# EAGLE library part GRPB032VWQP (library con-sullins-grpb)
HEADER
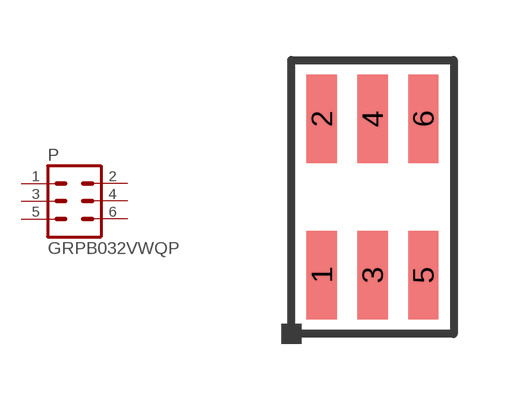
[diagram p0: symbol with the pads of GRPB032VWQP; footprint GRPB032VWQP]

Designator prefix P

## GRPB032VWQP  [GRPB032VWQP]
1  1  pas
2  2  pas
3  3  pas
4  4  pas
5  5  pas
6  6  pas

## Footprint GRPB032VWQP (pad centres in mm)
HEADER
smd 0.762 x 2.21: 1 -1.27,-1.956; 2 -1.27,1.956; 3 0,-1.956; 4 0,1.956; 5 1.27,-1.956; 6 1.27,1.956